# EAGLE library part SN74HC151DR (library micro-metal-dc-motor)
8-Line to 1-Line Dataselectors /MultiPlexers
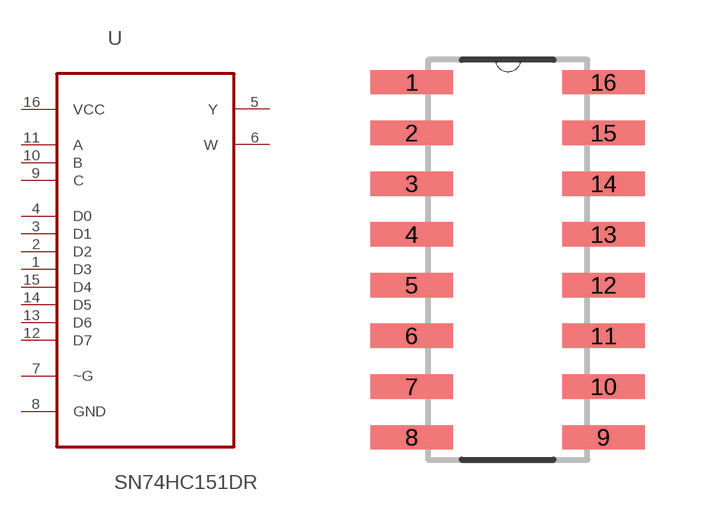
[diagram p6: symbol with the pads of SOIC127P600X175-16N; footprint SOIC127P600X175-16N]

Designator prefix U

## SN74HC151DR (AVAILABILITY: Unavailable; DESCRIPTION: 8-Line To 1-Line Data Selectors/Multiplexers 16-SOIC -40 to 85; MF: Texas Instruments; MP: SN74HC151DR; PACKAGE: SOIC-16 Texas Instruments; PRICE: None)  [SOIC127P600X175-16N]
1  D3  in
2  D2  in
3  D1  in
4  D0  in
5  Y  out
6  W  out
7  ~G  in
8  GND  pas
9  C  in
10  B  in
11  A  in
12  D7  in
13  D6  in
14  D5  in
15  D4  in
16  VCC  pwr

## Footprint SOIC127P600X175-16N (pad centres in mm)
smd 2.057 x 0.61: 1 -4.801,8.89; 2 -4.801,7.62; 3 -4.801,6.35; 4 -4.801,5.08; 5 -4.801,3.81; 6 -4.801,2.54; 7 -4.801,1.27; 8 -4.801,0; 9 0,0; 10 0,1.27; 11 0,2.54; 12 0,3.81; 13 0,5.08; 14 0,6.35; 15 0,7.62; 16 0,8.89